# EAGLE library part IRF7750 (library X893)
http://www.irf.com/product-info/datasheets/data/irf7750.pdf
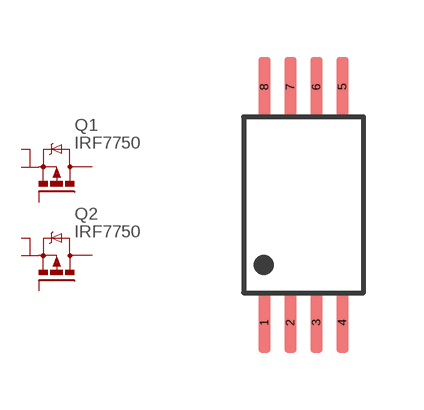
[diagram p44: symbol with the pads of TSSOP8; footprint TSSOP8]

Designator prefix Q; gates 1=MFET-2S 2=MFET-2S

## IRF7750  [TSSOP8]
1  1:D  pas
2  1:S  pas
3  1:S  pas
4  1:G  pas
5  2:G  pas
6  2:S  pas
7  2:S  pas
8  2:D  pas

## Footprint TSSOP8 (pad centres in mm)
smd 0.3 x 1.5: 1 -0.975,-2.95; 2 -0.325,-2.95; 3 0.325,-2.95; 4 0.975,-2.95; 5 0.975,2.95; 6 0.325,2.95; 7 -0.325,2.95; 8 -0.975,2.95